# EAGLE library part AT90PWM3 (library atmel)
PROCESSOR/MOTOR CONTORLLER, 8 BIT
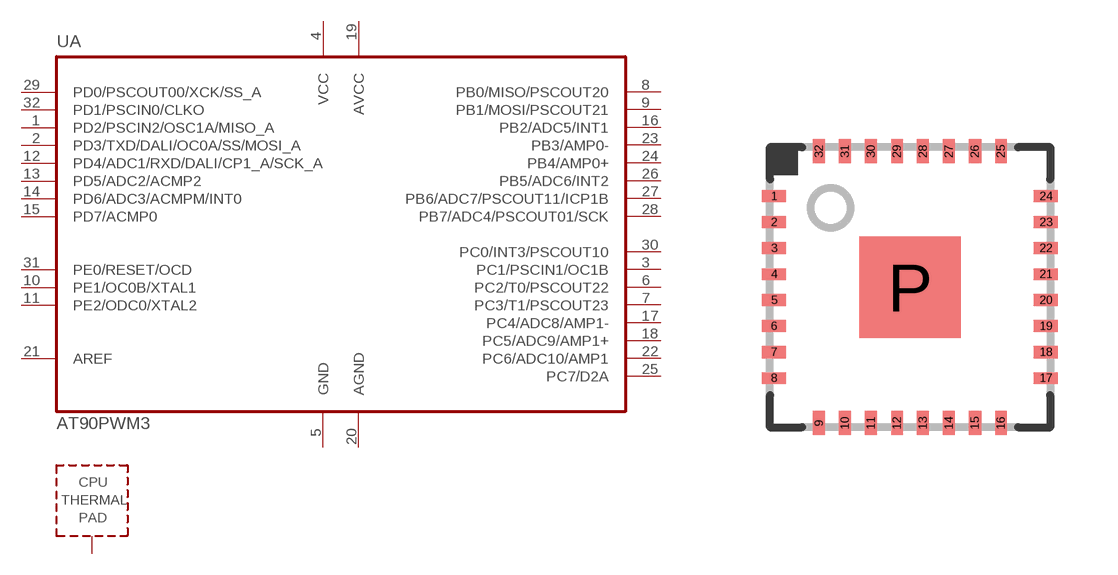
[diagram p49: symbol with the pads of QFN32-7X7; footprint QFN32-7X7]

Designator prefix U; gates A=AT90PWM3 B=THERMAL-PAD

## AT90PWM3  [QFN32-7X7]
1  A:PD2/PSCIN2/OSC1A/MISO_A
2  A:PD3/TXD/DALI/OC0A/SS/MOSI_A
3  A:PC1/PSCIN1/OC1B
4  A:VCC  pwr
5  A:GND  pwr
6  A:PC2/T0/PSCOUT22
7  A:PC3/T1/PSCOUT23
8  A:PB0/MISO/PSCOUT20
9  A:PB1/MOSI/PSCOUT21
10  A:PE1/OC0B/XTAL1
11  A:PE2/ODC0/XTAL2
12  A:PD4/ADC1/RXD/DALI/CP1_A/SCK_A
13  A:PD5/ADC2/ACMP2
14  A:PD6/ADC3/ACMPM/INT0
15  A:PD7/ACMP0
16  A:PB2/ADC5/INT1
17  A:PC4/ADC8/AMP1-
18  A:PC5/ADC9/AMP1+
19  A:AVCC  pwr
20  A:AGND  pwr
21  A:AREF
22  A:PC6/ADC10/AMP1
23  A:PB3/AMP0-
24  A:PB4/AMP0+
25  A:PC7/D2A
26  A:PB5/ADC6/INT2
27  A:PB6/ADC7/PSCOUT11/ICP1B
28  A:PB7/ADC4/PSCOUT01/SCK
29  A:PD0/PSCOUT00/XCK/SS_A
30  A:PC0/INT3/PSCOUT10
31  A:PE0/RESET/OCD
32  A:PD1/PSCIN0/CLKO
P  B:P$1  pas

## Footprint QFN32-7X7 (pad centres in mm)
QFN32 7x7 mm body
smd 0.6 x 0.3: 1 -3.4,2.275; 2 -3.4,1.625; 3 -3.4,0.975; 4 -3.4,0.325; 5 -3.4,-0.325; 6 -3.4,-0.975; 7 -3.4,-1.625; 8 -3.4,-2.275; 17 3.4,-2.275; 18 3.4,-1.625; 19 3.4,-0.975; 20 3.4,-0.325; 21 3.4,0.325; 22 3.4,0.975; 23 3.4,1.625; 24 3.4,2.275
smd 0.3 x 0.6: 9 -2.275,-3.4; 10 -1.625,-3.4; 11 -0.975,-3.4; 12 -0.325,-3.4; 13 0.325,-3.4; 14 0.975,-3.4; 15 1.625,-3.4; 16 2.275,-3.4; 25 2.275,3.4; 26 1.625,3.4; 27 0.975,3.4; 28 0.325,3.4; 29 -0.325,3.4; 30 -0.975,3.4; 31 -1.625,3.4; 32 -2.275,3.4
smd 2.54 x 2.54: P 0,0